# Altium footprint library Diode_Vishay_1N4148W-HE3-08_eec_IPC_C.PcbLib: 1 footprints
Each footprint in its own frame and in the unit in brackets; x right, y up, seen from the top. Pads: shape width x height; smd on the part's side, far side on the other; paste and mask are expansions set on the pad; w line width, h text height; cw(c..) or ccw(c..) is an arc to the next point about the centre after c.
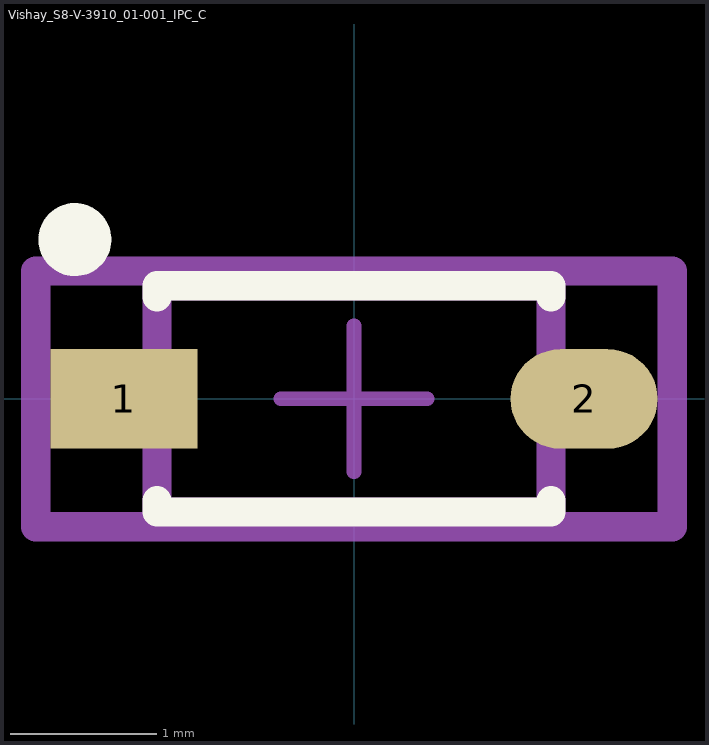
[diagram p0: the footprint, top view; thin cyan lines are the x and y axes]

## Vishay_S8-V-3910_01-001_IPC_C [mm]
pads (2):
  rect 1.007x0.682 smd paste+0 mask+0: 1(-1.576,0)
  rrect100% 1.007x0.682 smd paste+0 mask+0: 2(1.576,0)
Top Overlay:
  circle w0.25: c-1.911,1.091 r0.125
  lines w0.2: -1.35,-0.697 -1.35,-0.775 1.35,-0.775 1.35,-0.697 ; -1.35,0.697 -1.35,0.775 1.35,0.775 1.35,0.697
Mechanical 10:
  lines w0.2: -2.179,-0.875 2.179,-0.875 2.179,0.875 -2.179,0.875 -2.179,-0.875
  text ".Designator" at 0,0.188 h1
Mechanical 12:
  lines w0.2: -1.35,-0.775 1.35,-0.775 1.35,0.775 -1.35,0.775 -1.35,-0.775
Mechanical 15:
  lines w0.1: -0.5,0 0.5,0 ; 0,-0.5 0,0.5
  lines w0.2: -2.179,-0.875 2.179,-0.875 2.179,0.875 -2.179,0.875 -2.179,-0.875
3D body "Diode_Vishay_1N4148W-HE3-08_eec.STEP": height 0.25, standoff 0, extent -2.179,-0.875 2.179,0.875